# Altium schematic symbol library CONN_GIG_TF-SPE-PULSE_JK0654218Z.SchLib: 1 symbol
Pins are listed as number, name and electrical type; pins without a type are passive.

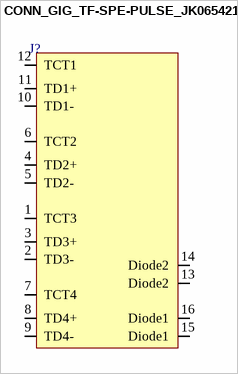
[diagram p0: symbol CONN_GIG_TF-SPE-PULSE_JK0654218Z]

## CONN_GIG_TF-SPE-PULSE_JK0654218Z
designator J?  (value not drawn)
pins: 1 TCT3, 2 TD3-, 3 TD3+, 4 TD2+, 5 TD2-, 6 TCT2, 7 TCT4, 8 TD4+, 9 TD4-, 10 TD1-, 11 TD1+, 12 TCT1, 13 Diode2, 14 Diode2, 15 Diode1, 16 Diode1